# Altium schematic symbol library SteeringWheelParts.SchLib: 1 symbol
Pins are listed as number, name and electrical type; pins without a type are passive.

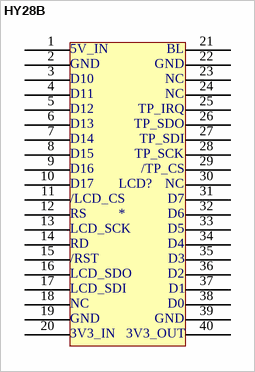
[diagram p0: symbol HY28B]

## HY28B
designator LCD?
2.8" LCD
footprint HY28B (2.8" LCD)
pins: 1, 2, 3, 4, 5, 6, 7, 8, 9, 10, 11, 12, 13, 14, 15, 16, 17, 18, 19, 20, 21, 22, 23, 24, 25, 26, 27, 28, 29, 30, 31, 32, 33, 34, 35, 36, 37, 38, 39, 40
text: 5V_IN; BL; GND; D10; NC; D11; D12; TP_IRQ; D13; TP_SDO; D14; TP_SDI; D15; TP_SCK; D16; /TP_CS; D17; /LCD_CS; D7; RS; D6; LCD_SCK; D5; RD; D4; /RST; D3; LCD_SDO; D2; LCD_SDI; D1; D0; 3V3_IN; 3V3_OUT